# Altium schematic symbol library Mylib.SchLib: 3 symbols
Pins are listed as number, name and electrical type; pins without a type are passive.

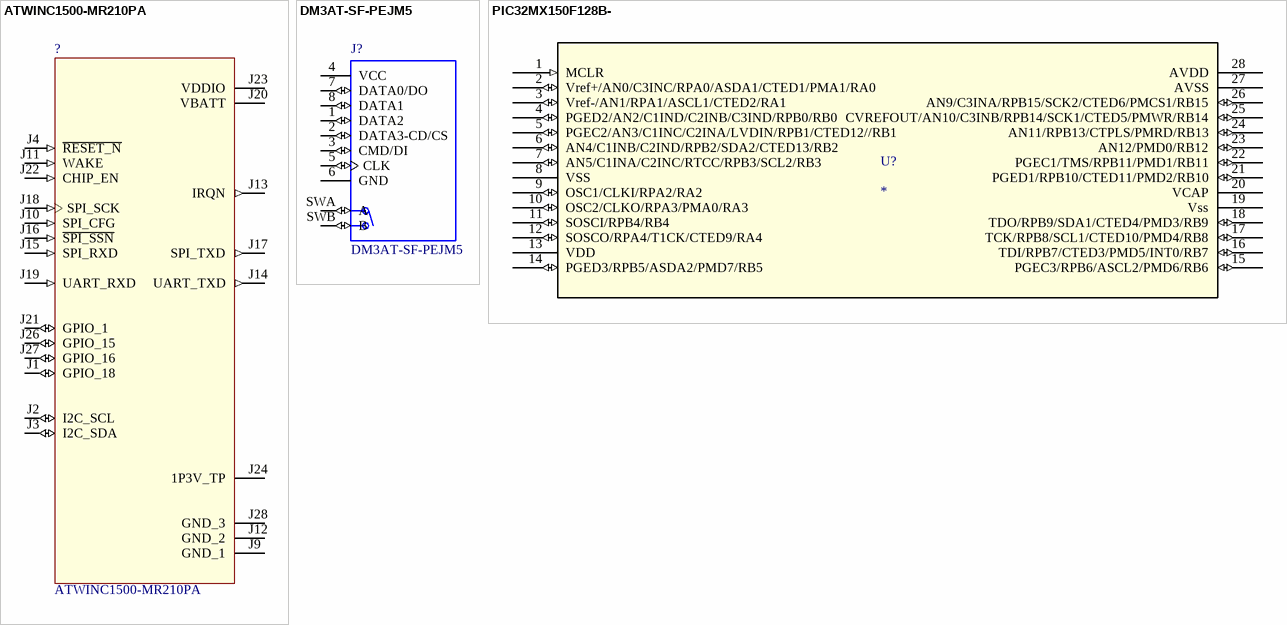
[diagram p0: symbols ATWINC1500-MR210PA to PIC32MX150F128B-]

## ATWINC1500-MR210PA
designator ?
Certified Module with ATWINC1500A-Mu Chip and PCB Antenna; MF: Microchip; Availability: Bad; Price: 14.92 USD; MP: ATWINC1500-MR210PA; Package: SMD-28 Microchip; SnapEDA_Link: https://www.snapeda.com/symbols-footprints/ATWINC1500-MR210PA/Microchip/view-part/?ref=snap; Value: *
footprint ATMEL_ATWINC1500-MR210PA_ATWINC1500-MR210PA(Primary)
pins: J1 GPIO_18 (io), J2 I2C_SCL (io), J3 I2C_SDA (io), J4 ~{RESET_N} (in), J9 GND_1, J10 SPI_CFG (in), J11 WAKE (in), J12 GND_2, J13 IRQN (out), J14 UART_TXD (out), J15 SPI_RXD (in), J16 ~{SPI_SSN} (in), J17 SPI_TXD (out), J18 SPI_SCK (in), J19 UART_RXD (in), J20 VBATT (power), J21 GPIO_1 (io), J22 CHIP_EN (in), J23 VDDIO (power), J24 1P3V_TP, J26 GPIO_15 (io), J27 GPIO_16 (io), J28 GND_3

## DM3AT-SF-PEJM5
designator J?
DM3 RA SMT microSD memory card push/push; MF: Hirose; MP: DM3AT-SF-PEJM5; Availability: Warning; Package: None; Price: 2.58 USD; SnapEDA_Link: https://www.snapeda.com/symbols-footprints/DM3AT-SF-PEJM5/Hirose%20Electric%20Co%20Ltd/view-part/?ref=snap; Value: *
footprint HRS_DM3AT-SF-PEJM5_DM3AT-SF-PEJM5(Primary)
pins: 1 DATA2 (io), 2 DATA3-CD/CS (io), 3 CMD/DI (io), 4 VCC (power), 5 CLK (io), 6 GND (power), 7 DATA0/DO (io), 8 DATA1 (io), SWA A (io), SWB B (io)

## PIC32MX150F128B-
designator U?
Imported; Value: Value; Type: Type; RefDes: RefDes
footprint SOIC127P1030X265-28N
pins: 1 MCLR (in), 2 Vref+/AN0/C3INC/RPA0/ASDA1/CTED1/PMA1/RA0 (io), 3 Vref-/AN1/RPA1/ASCL1/CTED2/RA1 (io) "v", 4 PGED2/AN2/C1IND/C2INB/C3IND/RPB0/RB0 (io), 5 PGEC2/AN3/C1INC/C2INA/LVDIN/RPB1/CTED12//RB1 (io), 6 AN4/C1INB/C2IND/RPB2/SDA2/CTED13/RB2 (io), 7 AN5/C1INA/C2INC/RTCC/RPB3/SCL2/RB3 (io), 8 VSS (power), 9 OSC1/CLKI/RPA2/RA2 (io), 10 OSC2/CLKO/RPA3/PMA0/RA3 (io), 11 SOSCI/RPB4/RB4 (io), 12 SOSCO/RPA4/T1CK/CTED9/RA4 (io), 13 VDD (power), 14 PGED3/RPB5/ASDA2/PMD7/RB5 (io), 15 PGEC3/RPB6/ASCL2/PMD6/RB6 (io), 16 TDI/RPB7/CTED3/PMD5/INT0/RB7 (io), 17 TCK/RPB8/SCL1/CTED10/PMD4/RB8 (io), 18 TDO/RPB9/SDA1/CTED4/PMD3/RB9 (io), 19 Vss (power), 20 VCAP (power), 21 PGED1/RPB10/CTED11/PMD2/RB10 (io), 22 PGEC1/TMS/RPB11/PMD1/RB11 (io), 23 AN12/PMD0/RB12 (io), 24 AN11/RPB13/CTPLS/PMRD/RB13 (io), 25 CVREFOUT/AN10/C3INB/RPB14/SCK1/CTED5/PMWR/RB14 (io), 26 AN9/C3INA/RPB15/SCK2/CTED6/PMCS1/RB15 (io), 27 AVSS (power), 28 AVDD (power)